# Altium schematic symbol library Generators.SchLib: 1 symbol
Pins are listed as number, name and electrical type; pins without a type are passive.

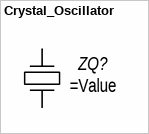
[diagram p0: symbol Crystal_Oscillator]

## Crystal_Oscillator
designator ZQ?  (value not drawn)
HelpURL: *; Manufacturer: *; Value: =Value
footprint HC-49SM (HC-49/SM Package)
footprint KX-327S (KX-327, 4 pin); pin to pad 2>4
pins: 1, 2